# Altium footprint library fairchild-semic.PCBLIB: 4 footprints
Each footprint in its own frame and in the unit in brackets; x right, y up, seen from the top. Pads: shape width x height; smd on the part's side, far side on the other; paste and mask are expansions set on the pad; w line width, h text height; cw(c..) or ccw(c..) is an arc to the next point about the centre after c.
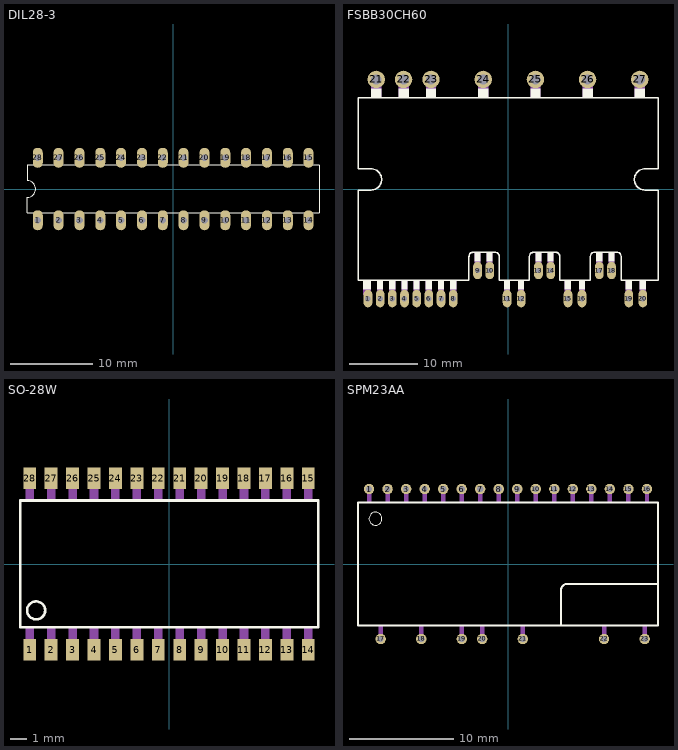
[diagram p0: the footprints below, top view; thin cyan lines are the x and y axes]

## DIL28-3 [mil]
pads (28):
  oval 48x96 hole 32: 1(-650,-150) 2(-550,-150) 3(-450,-150) 4(-350,-150) 5(-250,-150) 6(-150,-150) 7(-50,-150) 8(50,-150) 9(150,-150) 10(250,-150) 11(350,-150) 12(450,-150) 13(550,-150) 14(650,-150) 15(650,150) 16(550,150) 17(450,150) 18(350,150) 19(250,150) 20(150,150) 21(50,150) 22(-50,150) 23(-150,150) 24(-250,150) 25(-350,150) 26(-450,150) 27(-550,150) 28(-650,150)
Top Overlay:
  lines w6: -700,-115 700,-115 700,115 -700,115 -700,40 cw(c-700,0) -700,-40 -700,-115

## FSBB30CH60 [mil]
pads (27):
  oval 50x100 hole 31.5: 1(-805,-629.92) 2(-735,-629.92) 3(-665,-629.92) 4(-595,-629.92) 5(-525,-629.92) 6(-455,-629.92) 7(-385,-629.92) 8(-315,-629.92) 9(-175,-468.5) 10(-105,-468.5) 11(-5.35,-629.92) 12(75.35,-629.92) 13(175,-468.5) 14(245,-468.5) 15(344.65,-629.92) 16(425.35,-629.92) 17(525,-468.5) 18(595,-468.5) 19(694.65,-629.92) 20(775.35,-629.92)
  round 100 hole 59.06: 21(-757.48,629.92) 22(-600,629.92) 23(-442.52,629.92) 24(-142.52,629.92) 25(157.48,629.92) 26(457.48,629.92) 27(757.48,629.92)
Top Overlay:
  region: -787.4,-523.62 -832.68,-523.62 -832.68,-577.76 -787.4,-577.76
  region: -717.4,-523.62 -752.95,-523.62 -752.95,-577.76 -717.4,-577.76
  region: -647.4,-523.62 -682.95,-523.62 -682.95,-577.76 -647.4,-577.76
  region: -577.4,-523.62 -612.95,-523.62 -612.95,-577.76 -577.4,-577.76
  region: -507.4,-523.62 -542.95,-523.62 -542.95,-577.76 -507.4,-577.76
  region: -437.4,-523.62 -472.95,-523.62 -472.95,-577.76 -437.4,-577.76
  region: -367.4,-523.62 -402.95,-523.62 -402.95,-577.76 -367.4,-577.76
  region: -297.4,-523.62 -332.95,-523.62 -332.95,-577.76 -297.4,-577.76
  region: -157.48,-362.13 -193.58,-362.13 -193.58,-416.26 -157.48,-416.26
  region: -88.15,-362.13 -123.7,-362.13 -123.7,-416.26 -88.15,-416.26
  region: 12.24,-523.54 -23.31,-523.54 -23.31,-577.68 12.24,-577.68
  region: 92.95,-523.54 57.4,-523.54 57.4,-577.68 92.95,-577.68
  region: 192.36,-362.13 156.81,-362.13 156.81,-416.26 192.36,-416.26
  region: 262.24,-362.13 226.69,-362.13 226.69,-416.26 262.24,-416.26
  region: 361.65,-523.54 326.1,-523.54 326.1,-577.68 361.65,-577.68
  region: 442.36,-523.54 406.81,-523.54 406.81,-577.68 442.36,-577.68
  region: 541.77,-362.13 506.22,-362.13 506.22,-416.26 541.77,-416.26
  region: 612.64,-362.13 577.09,-362.13 577.09,-416.26 612.64,-416.26
  region: 712.05,-523.54 676.5,-523.54 676.5,-577.68 712.05,-577.68
  region: 792.76,-523.54 757.2,-523.54 757.2,-577.68 792.76,-577.68
  rectangle: 728.35,523.54 787.4,577.68
  rectangle: 428.35,523.54 487.4,577.68
  rectangle: 128.35,523.54 187.4,577.68
  rectangle: -171.65,523.54 -112.6,577.68
  rectangle: -471.65,523.54 -412.6,577.68
  rectangle: -629.13,523.54 -570.08,577.68
  rectangle: -786.61,523.54 -727.56,577.68
  lines w8: -862.2,-523.62 -224.41,-523.62 -224.41,-389.76 cw(c-196.85,-389.76) -196.85,-362.2 -77.76,-362.2 cw(c-77.76,-389.76) -50.2,-389.76 -50.2,-523.62 123.03,-523.62 123.03,-389.76 cw(c150.59,-389.76) 150.59,-362.2 270.67,-362.2 cw(c270.67,-389.76) 298.23,-389.76 298.23,-523.62 473.43,-523.62 473.43,-389.76 cw(c500.99,-389.75) 500.98,-362.2 623.03,-362.2 cw(c623.03,-389.76) 650.59,-389.76 650.59,-523.62 862.2,-523.62 862.2,-5.91 787.4,-5.91 cw(c787.4,55.12) 787.4,116.14 862.2,116.14 862.2,523.62 -862.2,523.62 -862.2,116.14 -787.4,116.14 cw(c-787.4,55.12) -787.4,-5.91 -862.2,-5.91 -862.2,-523.62
Mechanical 16:
  region: -792.32,-609.25 -818.9,-609.25 -818.9,-636.81 -792.32,-636.81
  region: -787.4,-524.61 -832.68,-524.61 -832.68,-609.25 -787.4,-609.25
  region: -717.4,-524.61 -752.95,-524.61 -752.95,-609.25 -717.4,-609.25
  region: -721.46,-609.25 -748.03,-609.25 -748.03,-636.81 -721.46,-636.81
  region: -647.4,-524.61 -682.95,-524.61 -682.95,-609.25 -647.4,-609.25
  region: -651.46,-609.25 -678.03,-609.25 -678.03,-636.81 -651.46,-636.81
  region: -577.4,-524.61 -612.95,-524.61 -612.95,-609.25 -577.4,-609.25
  region: -581.46,-609.25 -608.03,-609.25 -608.03,-636.81 -581.46,-636.81
  region: -507.4,-524.61 -542.95,-524.61 -542.95,-609.25 -507.4,-609.25
  region: -511.46,-609.25 -538.03,-609.25 -538.03,-636.81 -511.46,-636.81
  region: -437.4,-524.61 -472.95,-524.61 -472.95,-609.25 -437.4,-609.25
  region: -441.46,-609.25 -468.03,-609.25 -468.03,-636.81 -441.46,-636.81
  region: -367.4,-524.61 -402.95,-524.61 -402.95,-609.25 -367.4,-609.25
  region: -371.46,-609.25 -398.03,-609.25 -398.03,-636.81 -371.46,-636.81
  region: -297.4,-524.61 -332.95,-524.61 -332.95,-609.25 -297.4,-609.25
  region: -301.46,-609.25 -328.03,-609.25 -328.03,-636.81 -301.46,-636.81
  region: -157.48,-363.11 -193.58,-363.11 -193.58,-447.76 -157.48,-447.76
  region: -162.09,-447.76 -188.66,-447.76 -188.66,-475.32 -162.09,-475.32
  region: -88.15,-363.11 -123.7,-363.11 -123.7,-447.76 -88.15,-447.76
  region: -92.2,-447.76 -118.78,-447.76 -118.78,-475.32 -92.2,-475.32
  region: 12.24,-524.53 -23.31,-524.53 -23.31,-609.17 12.24,-609.17
  region: 8.19,-609.17 -18.39,-609.17 -18.39,-636.73 8.19,-636.73
  region: 92.95,-524.53 57.4,-524.53 57.4,-609.17 92.95,-609.17
  region: 88.9,-609.17 62.32,-609.17 62.32,-636.73 88.9,-636.73
  region: 192.36,-363.11 156.81,-363.11 156.81,-447.76 192.36,-447.76
  region: 188.31,-447.76 161.73,-447.76 161.73,-475.32 188.31,-475.32
  region: 262.24,-363.11 226.69,-363.11 226.69,-447.76 262.24,-447.76
  region: 258.19,-447.76 231.61,-447.76 231.61,-475.32 258.19,-475.32
  region: 361.65,-524.53 326.1,-524.53 326.1,-609.17 361.65,-609.17
  region: 357.6,-609.17 331.02,-609.17 331.02,-636.73 357.6,-636.73
  region: 442.36,-524.53 406.81,-524.53 406.81,-609.17 442.36,-609.17
  region: 438.31,-609.17 411.73,-609.17 411.73,-636.73 438.31,-636.73
  region: 541.77,-363.11 506.22,-363.11 506.22,-447.76 541.77,-447.76
  region: 537.72,-447.76 511.14,-447.76 511.14,-475.32 537.72,-475.32
  region: 612.64,-363.11 577.09,-363.11 577.09,-447.76 612.64,-447.76
  region: 608.58,-447.76 582.01,-447.76 582.01,-475.32 608.58,-475.32
  region: 712.05,-524.53 676.5,-524.53 676.5,-609.17 712.05,-609.17
  region: 707.99,-609.17 681.42,-609.17 681.42,-636.73 707.99,-636.73
  region: 792.76,-524.53 757.2,-524.53 757.2,-609.17 792.76,-609.17
  region: 788.7,-609.17 762.13,-609.17 762.13,-636.73 788.7,-636.73
  rectangle: 728.35,524.53 787.4,609.17
  rectangle: 738.19,609.17 777.56,649.61
  rectangle: 428.35,524.53 487.4,609.17
  rectangle: 438.19,609.17 477.56,649.61
  rectangle: 128.35,524.53 187.4,609.17
  rectangle: 138.19,609.17 177.56,649.61
  rectangle: -171.65,524.53 -112.6,609.17
  rectangle: -161.81,609.17 -122.44,649.61
  rectangle: -471.65,524.53 -412.6,609.17
  rectangle: -461.81,609.17 -422.44,649.61
  rectangle: -629.13,524.53 -570.08,609.17
  rectangle: -619.29,609.17 -579.92,649.61
  rectangle: -786.61,524.53 -727.56,609.17
  rectangle: -776.77,609.17 -737.4,649.61

## SO-28W [mil]
pads (28):
  rect 30x50 smd: 1(-325,-200) 2(-275,-200) 3(-225,-200) 4(-175,-200) 5(-125,-200) 6(-75,-200) 7(-25,-200) 8(25,-200) 9(75,-200) 10(125,-200) 11(175,-200) 12(225,-200) 13(275,-200) 14(325,-200) 15(325,200) 16(275,200) 17(225,200) 18(175,200) 19(125,200) 20(75,200) 21(25,200) 22(-25,200) 23(-75,200) 24(-125,200) 25(-175,200) 26(-225,200) 27(-275,200) 28(-325,200)
Top Overlay:
  circle w6: c-310,-108.25 r21
  lines w6: -347,-147.25 348,-147.25 348,148.16 -347,148.16 -347,-147.25
Mechanical 16:
  rectangle: -335,-208.25 -315,-148.25
  rectangle: -285,-208.25 -265,-148.25
  rectangle: -235,-208.25 -215,-148.25
  rectangle: -185,-208.25 -165,-148.25
  rectangle: -135,-208.25 -115,-148.25
  rectangle: -85,-208.25 -65,-148.25
  rectangle: -35,-208.25 -15,-148.25
  rectangle: 15,-208.25 35,-148.25
  rectangle: 65,-208.25 85,-148.25
  rectangle: 115,-208.25 135,-148.25
  rectangle: 165,-208.25 185,-148.25
  rectangle: 215,-208.25 235,-148.25
  rectangle: 265,-208.25 285,-148.25
  rectangle: 315,-208.25 335,-148.25
  rectangle: 315,149.16 335,209.16
  rectangle: 265,149.16 285,209.16
  rectangle: 215,149.16 235,209.16
  rectangle: 165,149.16 185,209.16
  rectangle: 115,149.16 135,209.16
  rectangle: 65,149.16 85,209.16
  rectangle: 15,149.16 35,209.16
  rectangle: -35,149.16 -15,209.16
  rectangle: -85,149.16 -65,209.16
  rectangle: -135,149.16 -115,209.16
  rectangle: -185,149.16 -165,209.16
  rectangle: -235,149.16 -215,209.16
  rectangle: -285,149.16 -265,209.16
  rectangle: -335,149.16 -315,209.16

## SPM23AA [mm]
pads (23):
  round 1 hole 0.6: 1(-13.34,7.2) 2(-11.561,7.2) 3(-9.783,7.2) 4(-8.004,7.2) 5(-6.226,7.2) 6(-4.447,7.2) 7(-2.669,7.2) 8(-0.89,7.2) 9(0.889,7.2) 10(2.668,7.2) 11(4.446,7.2) 12(6.225,7.2) 13(8.003,7.2) 14(9.782,7.2) 15(11.56,7.2) 16(13.339,7.2) 17(-12.23,-7.2) 18(-8.33,-7.2) 19(-4.43,-7.2) 20(-2.48,-7.2) 21(1.42,-7.2) 22(9.22,-7.2) 23(13.12,-7.2)
Top Overlay:
  circle w0: c-12.725,4.35 r0.625
  lines w0.203: 5.075,-5.8 5.075,-2.545 5.08,-2.54 cw(c5.715,-2.54) 5.715,-1.905 14.325,-1.905 ; -14.4,-5.9 14.4,-5.9 14.4,5.9 -14.4,5.9 -14.4,-5.9
Mechanical 16:
  rectangle: -13.55,5.975 -13.125,7.4
  rectangle: -11.771,5.975 -11.346,7.4
  rectangle: -9.993,5.975 -9.568,7.4
  rectangle: -8.214,5.975 -7.789,7.4
  rectangle: -6.436,5.975 -6.011,7.4
  rectangle: -4.657,5.975 -4.232,7.4
  rectangle: -2.878,5.975 -2.453,7.4
  rectangle: -1.1,5.975 -0.675,7.4
  rectangle: 0.679,5.975 1.104,7.4
  rectangle: 2.457,5.975 2.882,7.4
  rectangle: 4.236,5.975 4.661,7.4
  rectangle: 6.015,5.975 6.44,7.4
  rectangle: 7.793,5.975 8.218,7.4
  rectangle: 9.572,5.975 9.997,7.4
  rectangle: 11.35,5.975 11.775,7.4
  rectangle: 13.129,5.975 13.554,7.4
  region: -12.014,-5.975 -12.439,-5.975 -12.439,-7.4 -12.014,-7.4
  region: -8.115,-5.975 -8.539,-5.975 -8.539,-7.4 -8.115,-7.4
  region: -4.215,-5.975 -4.64,-5.975 -4.64,-7.4 -4.215,-7.4
  region: -2.264,-5.975 -2.69,-5.975 -2.69,-7.4 -2.264,-7.4
  region: 1.636,-5.975 1.211,-5.975 1.211,-7.4 1.636,-7.4
  region: 9.436,-5.975 9.01,-5.975 9.01,-7.4 9.436,-7.4
  region: 13.336,-5.975 12.911,-5.975 12.911,-7.4 13.336,-7.4